# EAGLE library part TSM4944DCS (library DUAL_MOSFET)
30V Dual N-Channel MOSFET
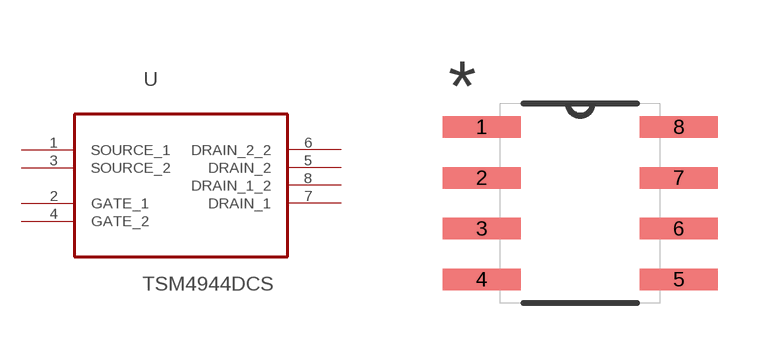
[diagram p0: symbol with the pads of SOP127P600X175-8N; footprint SOP127P600X175-8N]

Designator prefix U

## TSM4944DCS (MPN: TSM4944DCS; OC_FARNELL: 1864584; OC_NEWARK: 27T3010; PACKAGE: SOP-8; SUPPLIER: TAIWAN SEMICONDUCTOR)  [SOP127P600X175-8N]
1  SOURCE_1  in
2  GATE_1  in
3  SOURCE_2  in
4  GATE_2  in
5  DRAIN_2  out
6  DRAIN_2_2  out
7  DRAIN_1  out
8  DRAIN_1_2  out

## Footprint SOP127P600X175-8N (pad centres in mm)
smd 1.956 x 0.533: 1 -2.464,1.905; 2 -2.464,0.635; 3 -2.464,-0.635; 4 -2.464,-1.905; 5 2.464,-1.905; 6 2.464,-0.635; 7 2.464,0.635; 8 2.464,1.905